# Altium footprint library 0805 Resistor.PcbLib: 1 footprints
Each footprint in its own frame and in the unit in brackets; x right, y up, seen from the top. Pads: shape width x height; smd on the part's side, far side on the other; paste and mask are expansions set on the pad; w line width, h text height; cw(c..) or ccw(c..) is an arc to the next point about the centre after c.
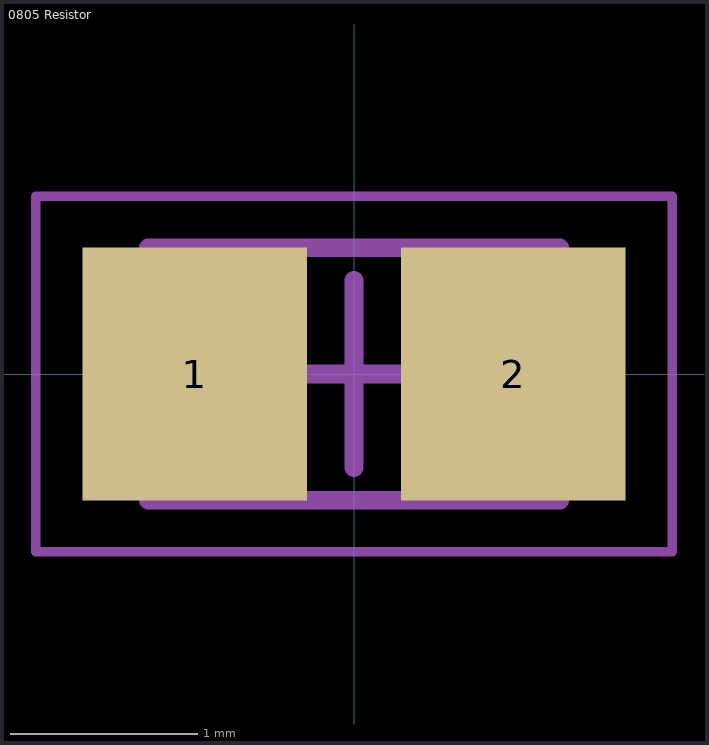
[diagram p0: the footprint, top view; thin cyan lines are the x and y axes]

## 0805 Resistor [mm] "Chip Resistor, 2-Leads, Body 2.00x1.25mm, IPC Medium Density"
height 0.6
pads (2):
  rect 1.2x1.35 smd: 1(-0.85,0) 2(0.85,0)
Mechanical 13:
  lines w0.1: -1.1,-0.675 1.1,-0.675 1.1,0.675 -1.1,0.675 -1.1,-0.675
Mechanical 15:
  lines w0.05: -1.7,-0.95 1.7,-0.95 1.7,0.95 -1.7,0.95 -1.7,-0.95
  lines w0.1: -0.5,0 0.5,0 ; 0,-0.5 0,0.5
3D body: height 0.6, standoff 0, extent 0.7,-0.675 1.1,0.675
3D body: height 0.6, standoff 0, extent -1.1,-0.675 -0.7,0.675
3D body: height 0.6, standoff 0, extent -0.7,-0.675 0.7,0.675